# Altium schematic symbol library DSP_Texas.SchLib: 1 symbol
Pins are listed as number, name and electrical type; pins without a type are passive.

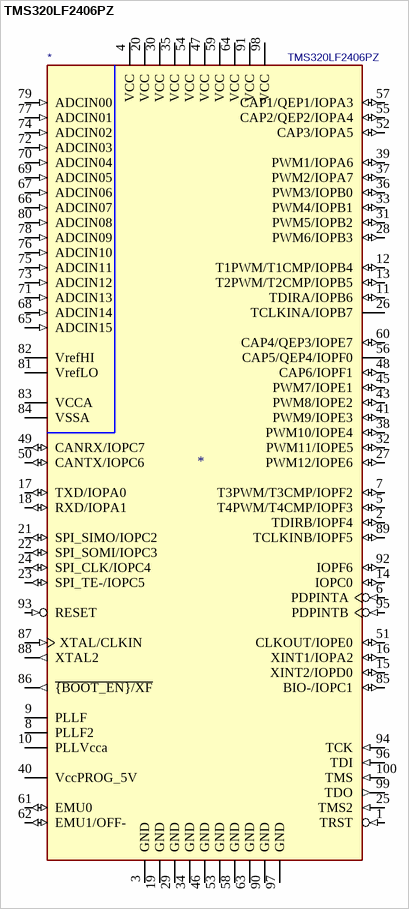
[diagram p0: symbol TMS320LF2406PZ]

## TMS320LF2406PZ
designator *  value TMS320LF2406PZ
ki_keywords: 16BIT DSP TMS320 Obsolete; ki_description: 16bit DSP Controller 32Kx16B Flash 2.5Kx16B RAM, Obsolete NRND, PQFP-100; ki_fp_filters: PQFP-100*; Supplier: http://www.ti.com/lit/ds/symlink/tms320lf2406.pdf
pins: 1 TRST (in), 2 TDIRB/IOPF4 (io), 3 GND (power), 4 VCC (power), 5 T4PWM/T4CMP/IOPF3 (io), 6 PDPINTA (in), 7 T3PWM/T3CMP/IOPF2 (io), 8 PLLF2, 9 PLLF, 10 PLLVcca, 11 TDIRA/IOPB6 (io), 12 T1PWM/T1CMP/IOPB4 (io), 13 T2PWM/T2CMP/IOPB5 (io), 14 IOPC0 (io), 15 XINT2/IOPD0 (io), 16 XINT1/IOPA2 (io), 17 TXD/IOPA0 (io), 18 RXD/IOPA1 (io), 19 GND (power), 20 VCC (power), 21 SPI_SIMO/IOPC2 (io), 22 SPI_SOMI/IOPC3 (io), 23 SPI_TE-/IOPC5 (io), 24 SPI_CLK/IOPC4 (io), 25 TMS2 (in), 26 TCLKINA/IOPB7, 27 PWM12/IOPE6 (io), 28 PWM6/IOPB3 (io), 29 GND (power), 30 VCC (power), 31 PWM5/IOPB2 (io), 32 PWM11/IOPE5 (io), 33 PWM4/IOPB1 (io), 34 GND (power), 35 VCC (power), 36 PWM3/IOPB0 (io), 37 PWM2/IOPA7 (io), 38 PWM10/IOPE4 (io), 39 PWM1/IOPA6 (io), 40 VccPROG_5V, 41 PWM9/IOPE3 (io), 43 PWM8/IOPE2 (io), 45 PWM7/IOPE1 (io), 46 GND (power), 47 VCC (power), 48 CAP6/IOPF1 (io), 49 CANRX/IOPC7 (io), 50 CANTX/IOPC6 (io), 51 CLKOUT/IOPE0 (io), 52 CAP3/IOPA5 (io), 53 GND (power), 54 VCC (power), 55 CAP2/QEP2/IOPA4 (io), 56 CAP5/QEP4/IOPF0, 57 CAP1/QEP1/IOPA3 (io), 58 GND (power), 59 VCC (power), 60 CAP4/QEP3/IOPE7 (io), 61 EMU0 (io), 62 EMU1/OFF- (io), 63 GND (power), 64 VCC (power), 65 ADCIN15 (in), 66 ADCIN07 (in), 67 ADCIN06 (in), 68 ADCIN14 (in), 69 ADCIN05 (in), 70 ADCIN04 (in), 71 ADCIN13 (in), 72 ADCIN03 (in), 73 ADCIN12 (in), 74 ADCIN02 (in), 75 ADCIN11 (in), 76 ADCIN10 (in), 77 ADCIN01 (in), 78 ADCIN09 (in), 79 ADCIN00 (in), 80 ADCIN08 (in), 81 VrefLO, 82 VrefHI, 83 VCCA (power), 84 VSSA (power), 85 BIO-/IOPC1 (io), 86 ~{{BOOT_EN}/XF} (out), 87 XTAL/CLKIN (in), 88 XTAL2 (out), 89 TCLKINB/IOPF5 (io), 90 GND (power), 91 VCC (power), 92 IOPF6 (io), 93 RESET (in), 94 TCK (in), 95 PDPINTB (in), 96 TDI (in), 97 GND (power), 98 VCC (power), 99 TDO (out), 100 TMS (in)